# Altium footprint library BxP_connectors.PcbLib: 3 footprints
Each footprint in its own frame and in the unit in brackets; x right, y up, seen from the top. Pads: shape width x height; smd on the part's side, far side on the other; paste and mask are expansions set on the pad; w line width, h text height; cw(c..) or ccw(c..) is an arc to the next point about the centre after c.
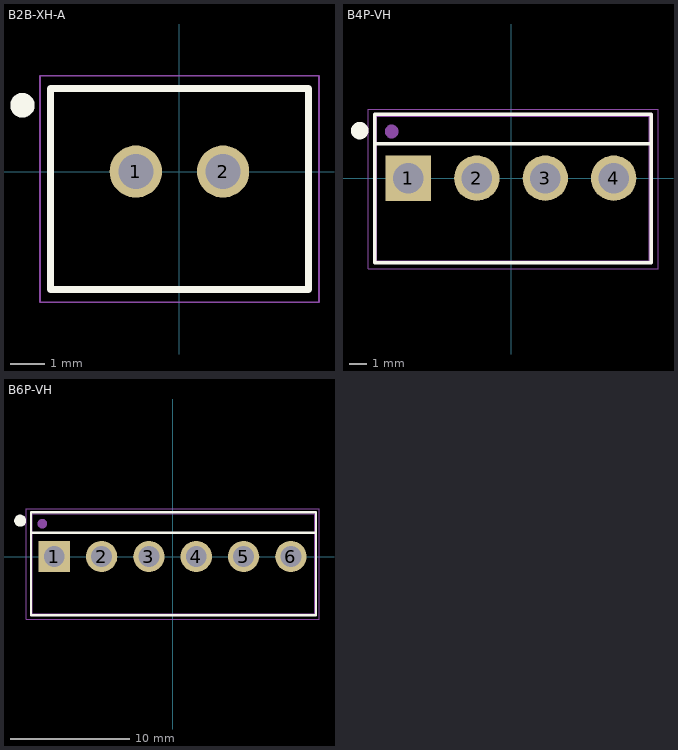
[diagram p0: the footprints below, top view; thin cyan lines are the x and y axes]

## B2B-XH-A [mm]
height 7
pads (2):
  round 1.5 hole 1: 1(-1.25,0) 2(1.25,0)
Top Overlay:
  circle w0.5: c-4.5,1.9 r0.1
  lines w0.2: -3.7,-3.375 -3.7,2.375 3.7,2.375 3.7,-3.375 -3.7,-3.375
Top Assembly:
  lines w0.1: -3.7,-3.375 3.7,-3.375 3.7,2.375 -3.7,2.375 -3.7,-3.375
  text ".Designator" at -4.998,-0.333 h1
Top Courtyard (Mech15):
  lines w0.05: -4,-3.75 -4,2.75 4,2.75 4,-3.75 -4,-3.75
3D body "JST B2B-XH-A.STEP": height 7, standoff -3.4, extent -3.7,-3.375 3.7,2.375

## B4P-VH [mm]
pads (4):
  rect 2.625x2.625 hole 1.75 mask-25.4: 1(-5.94,0)
  round 2.625 hole 1.75 mask-25.4: 2(-1.98,0) 3(1.98,0) 4(5.94,0)
Top Overlay:
  circle w0.8: c-8.75,2.75 r0.1
  lines w0.2: 8.1,2 -7.89,2 ; -7.89,2 -7.89,3.7 8.1,3.7 8.1,2.21 8.1,-4.9 -7.89,-4.9 -7.89,2
Top Assembly:
  circle w0.4: c-6.9,2.7 r0.2
  lines w0.1: -7.8,-4.8 -7.8,3.6 8,3.6 8,-4.8 -7.8,-4.8
  text ".Designator" at -4.998,-0.333 h1
Top Courtyard (Mech15):
  lines w0.05: -8.25,-5.25 8.5,-5.25 8.5,4 -8.25,4 -8.25,-5.25
3D body "B4P-VH.STEP": height 10.9, standoff -3.7, extent -7.79,-4.85 7.99,3.65

## B6P-VH [mm]
pads (6):
  rect 2.625x2.625 hole 1.75 mask-25.4: 1(-9.9,0)
  round 2.625 hole 1.75 mask-25.4: 2(-5.94,0) 3(-1.98,0) 4(1.98,0) 5(5.94,0) 6(9.9,0)
Top Overlay:
  circle w0.8: c-12.75,3 r0.1
  lines w0.2: 12,2 -11.85,2 ; -11.85,2 -11.85,3.7 12,3.7 12,-1.45 12,-4.9 -11.85,-4.9 -11.85,2
Top Assembly:
  circle w0.4: c-10.9,2.75 r0.2
  lines w0.1: -11.76,-4.8 -11.76,3.6 11.9,3.6 11.9,-4.8 -11.76,-4.8
  text ".Designator" at -4.998,-0.333 h1
Top Courtyard (Mech15):
  lines w0.05: -12.25,-5.25 12.25,-5.25 12.25,4 -12.25,4 -12.25,-5.25
3D body "B6P-VH.STEP": height 10.9, standoff -3.7, extent -11.8,-4.85 11.9,3.65